# Altium footprint library SMT_Passive-Components.PcbLib: 14 footprints
Each footprint in its own frame and in the unit in brackets; x right, y up, seen from the top. Pads: shape width x height; smd on the part's side, far side on the other; paste and mask are expansions set on the pad; w line width, h text height; cw(c..) or ccw(c..) is an arc to the next point about the centre after c.
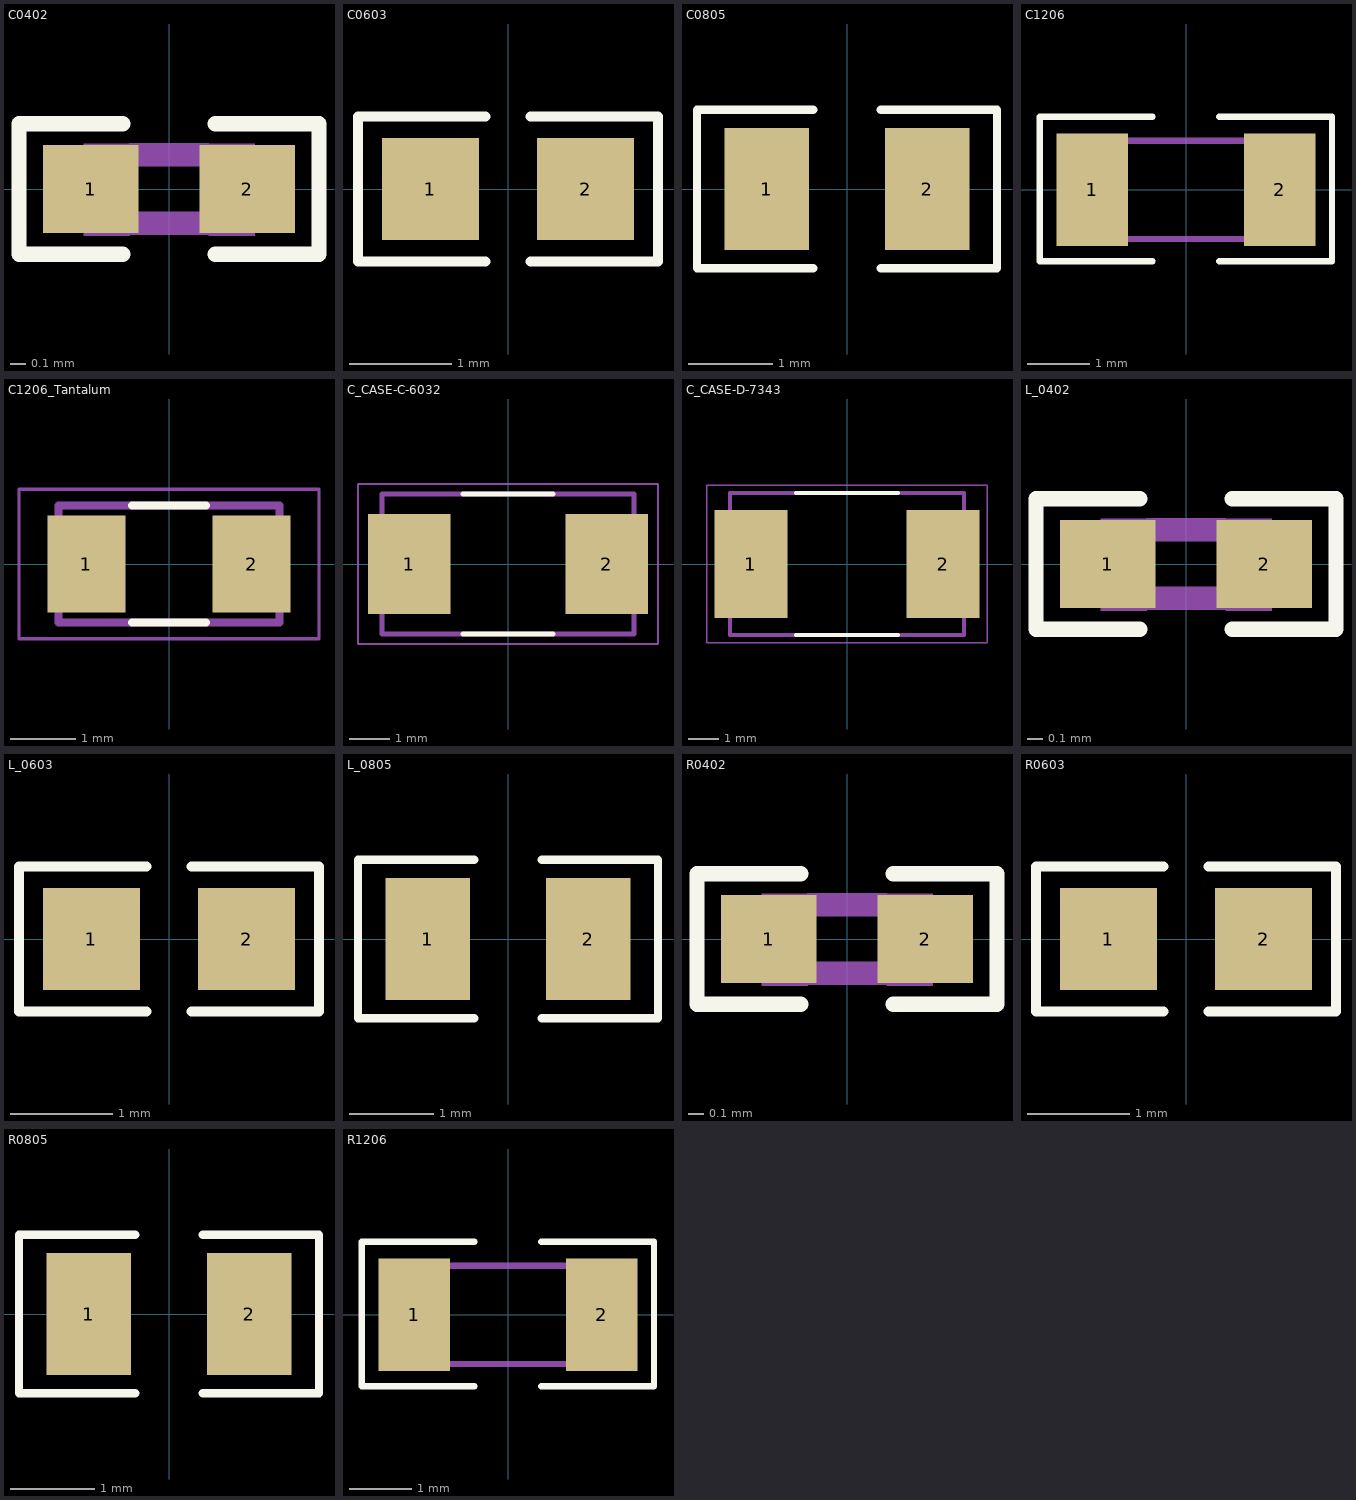
[diagram p0: the footprints below, top view; thin cyan lines are the x and y axes]

## C0402 [mm]
pads (2):
  rect 0.62x0.57 smd: 1(-0.508,0) 2(0.508,0)
Top Overlay:
  lines w0.1: -0.3,-0.425 -0.975,-0.425 -0.975,0.425 -0.3,0.425 ; 0.3,-0.425 0.975,-0.425 0.975,0.425 0.3,0.425
Mechanical 13:
  region: 0.559,-0.305 0.259,-0.305 0.259,0.295 0.559,0.295
  region: -0.254,-0.305 -0.555,-0.305 -0.555,0.295 -0.254,0.295
  lines w0.152: -0.245,-0.224 0.245,-0.224 ; -0.245,0.224 0.245,0.224
3D body "GRM155R71C104KA88D.STEP": height 0.55, standoff 0, extent -0.5,-0.25 0.5,0.25

## C0603 [mm]
pads (2):
  rect 0.95x1 smd: 1(-0.762,0) 2(0.762,0)
Top Overlay:
  lines w0.1: -0.222,-0.711 -1.473,-0.711 -1.473,0.711 -0.222,0.711 ; 0.222,-0.711 1.473,-0.711 1.473,0.711 0.222,0.711
3D body "GCJ188R71H104KA12D.STEP": height 0.9, standoff 0, extent -0.8,-0.4 0.8,0.4

## C0805 [mm]
pads (2):
  rect 1x1.45 smd: 1(-0.95,0) 2(0.95,0)
Top Overlay:
  lines w0.1: -0.4,-0.94 -1.778,-0.94 -1.778,0.94 -0.4,0.94 ; 0.4,-0.94 1.778,-0.94 1.778,0.94 0.4,0.94
3D body "C_0805.STEP": height 1.46, standoff 0.01, extent -1,-0.625 1,0.625

## C1206 [mm]
pads (2):
  rect 1.15x1.8 smd: 1(-1.499,0) 2(1.499,0)
Top Overlay:
  lines w0.1: -0.534,-1.143 -2.337,-1.143 -2.337,1.168 -0.534,1.168 ; 0.533,-1.143 2.336,-1.143 2.336,1.168 0.533,1.168
Mechanical 13:
  lines w0.102: -0.965,-0.787 0.965,-0.787 ; -0.965,0.787 0.965,0.787
3D body "step_temp.STEP": height 1.9, standoff 0, extent -1.6,-0.8 1.6,0.8

## C1206_Tantalum [mm]
pads (2):
  rect 1.2x1.5 smd: 1(-1.27,0) 2(1.27,0)
Top Overlay:
  lines w0.127: -0.57,-0.9 0.57,-0.9 ; -0.57,0.9 0.57,0.9
Mechanical 13:
  lines w0.127: -1.7,-0.9 1.7,-0.9 1.7,0.9 -1.7,0.9 -1.7,-0.9
Mechanical 15:
  lines w0.05: -2.308,-1.15 2.308,-1.15 2.308,1.15 -2.308,1.15 -2.308,-1.15
3D body "T494A106K016AT.STEP": height 1.8, standoff 0, extent -1.6,-0.8 1.6,0.8

## C_CASE-C-6032 [mm]
pads (2):
  rect 2.07x2.5 smd: 1(-2.471,0) 2(2.471,0)
Top Overlay:
  lines w0.127: -1.12,-1.75 1.12,-1.75 ; -1.12,1.75 1.12,1.75
Mechanical 13:
  lines w0.127: -3.15,-1.75 -3.15,1.75 3.15,1.75 3.15,-1.75 -3.15,-1.75
Mechanical 15:
  lines w0.05: -3.755,-2 -3.755,2 3.755,2 3.755,-2 -3.755,-2
3D body "step_temp.STEP": height 2.8, standoff 0, extent -3,-1.6 3,1.6

## C_CASE-D-7343 [mm]
pads (2):
  rect 2.37x3.5 smd: 1(-3.12,0) 2(3.12,0)
Top Overlay:
  lines w0.127: -1.651,-2.3 1.651,-2.3 ; -1.651,2.3 1.651,2.3
Mechanical 13:
  lines w0.127: -3.8,-2.3 3.8,-2.3 3.8,2.3 -3.8,2.3 -3.8,-2.3
Mechanical 15:
  lines w0.05: -4.56,-2.55 -4.56,2.55 4.56,2.55 4.56,-2.55 -4.56,-2.55
3D body "step_temp.STEP": height 3.1, standoff 0, extent -3.65,-2.15 3.65,2.15

## L_0402 [mm]
pads (2):
  rect 0.62x0.57 smd: 1(-0.508,0) 2(0.508,0)
Top Overlay:
  lines w0.1: -0.3,-0.425 -0.975,-0.425 -0.975,0.425 -0.3,0.425 ; 0.3,-0.425 0.975,-0.425 0.975,0.425 0.3,0.425
Mechanical 13:
  region: -0.254,-0.305 -0.555,-0.305 -0.555,0.295 -0.254,0.295
  region: 0.559,-0.305 0.259,-0.305 0.259,0.295 0.559,0.295
  lines w0.152: -0.245,-0.224 0.245,-0.224 ; -0.245,0.224 0.245,0.224
3D body "Downloads_STP_7447840xxx _0402 (rev1).stp": height 0.51, standoff 0.01, extent -0.5,-0.25 0.5,0.25

## L_0603 [mm]
pads (2):
  rect 0.95x1 smd: 1(-0.762,0) 2(0.762,0)
Top Overlay:
  lines w0.1: -0.222,-0.711 -1.473,-0.711 -1.473,0.711 -0.222,0.711 ; 0.222,-0.711 1.473,-0.711 1.473,0.711 0.222,0.711
3D body "MLF1608C150MTD25.STEP": height 0.95, standoff 0, extent -0.8,-0.4 0.8,0.4

## L_0805 [mm]
pads (2):
  rect 1x1.45 smd: 1(-0.95,0) 2(0.95,0)
Top Overlay:
  lines w0.1: -0.4,-0.94 -1.778,-0.94 -1.778,0.94 -0.4,0.94 ; 0.4,-0.94 1.778,-0.94 1.778,0.94 0.4,0.94
3D body "step_temp.STEP": height 1.26, standoff 0.01, extent -1,-0.525 1,0.525

## R0402 [mm]
pads (2):
  rect 0.62x0.57 smd: 1(-0.508,0) 2(0.508,0)
Top Overlay:
  lines w0.1: -0.3,-0.425 -0.975,-0.425 -0.975,0.425 -0.3,0.425 ; 0.3,-0.425 0.975,-0.425 0.975,0.425 0.3,0.425
Mechanical 13:
  region: 0.559,-0.305 0.259,-0.305 0.259,0.295 0.559,0.295
  region: -0.254,-0.305 -0.555,-0.305 -0.555,0.295 -0.254,0.295
  lines w0.152: -0.245,-0.224 0.245,-0.224 ; -0.245,0.224 0.245,0.224
3D body "step_temp.STEP": height 0.4, standoff 0, extent -0.5,-0.25 0.5,0.25

## R0603 [mm]
pads (2):
  rect 0.95x1 smd: 1(-0.762,0) 2(0.762,0)
Top Overlay:
  lines w0.1: -0.222,-0.711 -1.473,-0.711 -1.473,0.711 -0.222,0.711 ; 0.222,-0.711 1.473,-0.711 1.473,0.711 0.222,0.711
3D body "Resistor_0603_Text.step": height 0.47, standoff 0.01, extent -0.8,-0.4 0.8,0.4

## R0805 [mm]
height 10.16
pads (2):
  rect 1x1.45 smd: 1(-0.95,0) 2(0.95,0)
Top Overlay:
  lines w0.1: -0.4,-0.94 -1.778,-0.94 -1.778,0.94 -0.4,0.94 ; 0.4,-0.94 1.778,-0.94 1.778,0.94 0.4,0.94
3D body "Resistor_0805_Text.step": height 0.52, standoff 0.01, extent -1,-0.625 1,0.625

## R1206 [mm]
pads (2):
  rect 1.15x1.8 smd mask+0.102: 1(-1.499,0) 2(1.499,0)
Top Overlay:
  lines w0.1: -0.534,-1.143 -2.337,-1.143 -2.337,1.168 -0.534,1.168 ; 0.533,-1.143 2.336,-1.143 2.336,1.168 0.533,1.168
Mechanical 13:
  lines w0.102: -0.965,-0.787 0.965,-0.787 ; -0.965,0.787 0.965,0.787
3D body "R_1206.STEP": height 0.66, standoff 0, extent -1.55,-0.8 1.55,0.8